# Altium schematic symbol library Resistors.SchLib: 1 symbol
Pins are listed as number, name and electrical type; pins without a type are passive.

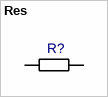
[diagram p0: symbol Res]

## Res
designator R?  (value not drawn)
footprint R0603 (Chip_Resistor_0603)
footprint R0805 (Chip_Resistor_0805)
pins: 1, 2